# Altium footprint library Varistor_Pcb.PcbLib: 2 footprints
Each footprint in its own frame and in the unit in brackets; x right, y up, seen from the top. Pads: shape width x height; smd on the part's side, far side on the other; paste and mask are expansions set on the pad; w line width, h text height; cw(c..) or ccw(c..) is an arc to the next point about the centre after c.
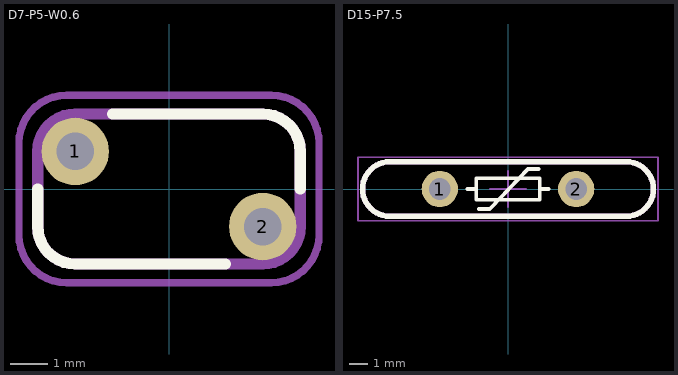
[diagram p0: the footprints below, top view; thin cyan lines are the x and y axes]

## D7-P5-W0.6 [mm]
pads (2):
  round 1.8 hole 1: 1(-2.5,1) 2(2.5,-1)
Top Overlay:
  lines w0.3: -3.5,0 -3.5,-1 ccw(c-2.5,-1) -2.5,-2 1.5,-2 ; -1.5,2 2.5,2 cw(c2.5,1) 3.5,1 3.5,0
Mechanical 13:
  lines w0.3: -3.5,-1 ccw(c-2.5,-1) -2.5,-2 2.5,-2 ccw(c2.5,-1) 3.5,-1 3.5,1 ccw(c2.5,1) 2.5,2 -2.5,2 ccw(c-2.5,1) -3.5,1 -3.5,-1
  text ".designator" at -4.332,-0.697 h1.5
Mechanical 15:
  lines w0.2: -4,-1.23 ccw(c-2.73,-1.23) -2.73,-2.5 2.73,-2.5 ccw(c2.73,-1.23) 4,-1.23 4,1.23 ccw(c2.73,1.23) 2.73,2.5 2.5,2.5 -2.73,2.5 ccw(c-2.73,1.23) -4,1.23 -4,1 -4,0 -4,-1.23
3D body "Varistor 7mm.step": height 12.01, standoff -2.99, extent -4.491,-2.8 4.491,2.8

## D15-P7.5 [mm]
pads (2):
  round 2 hole 1.2: 1(-3.75,0) 2(3.75,0)
Top Overlay:
  lines w0.2: -2.25,0 -1.75,0 ; -1.6,-1.1 -1,-1.1 1.1,1.1 1.7,1.1 ; 1.75,0 2.25,0 ; -1.75,0 -1.75,-0.6 1.75,-0.6 1.75,0.6 -1.75,0.6 -1.75,0
  lines w0.3: -8,0 ccw(c-6.5,0) -6.5,-1.5 6.5,-1.5 ccw(c6.5,0) 8,0 ccw(c6.5,0) 6.5,1.5 -6.5,1.5 ccw(c-6.5,0) -8,0
Mechanical 13:
  lines w0.3: -8,0 ccw(c-6.5,0) -6.5,-1.5 6.5,-1.5 ccw(c6.5,0) 8,0 ccw(c6.5,0) 6.5,1.5 -6.5,1.5 ccw(c-6.5,0) -8,0
  text ".Designator" at -2.5,-0.468 h1.5
Mechanical 15:
  lines w0.1: -1,0 1,0 ; 0,-1 0,1 ; -8.25,-1.75 8.25,-1.75 8.25,1.75 -8.25,1.75 -8.25,-1.75
3D body "D15.5-P7.5.step": height 18.51, standoff -2.99, extent -7.75,-2.1 7.75,2.1